# Altium integrated library Cypress PLD Simple.IntLib: 183 symbols (part 1 of 5)
Pins are listed as number, name and electrical type; pins without a type are passive.

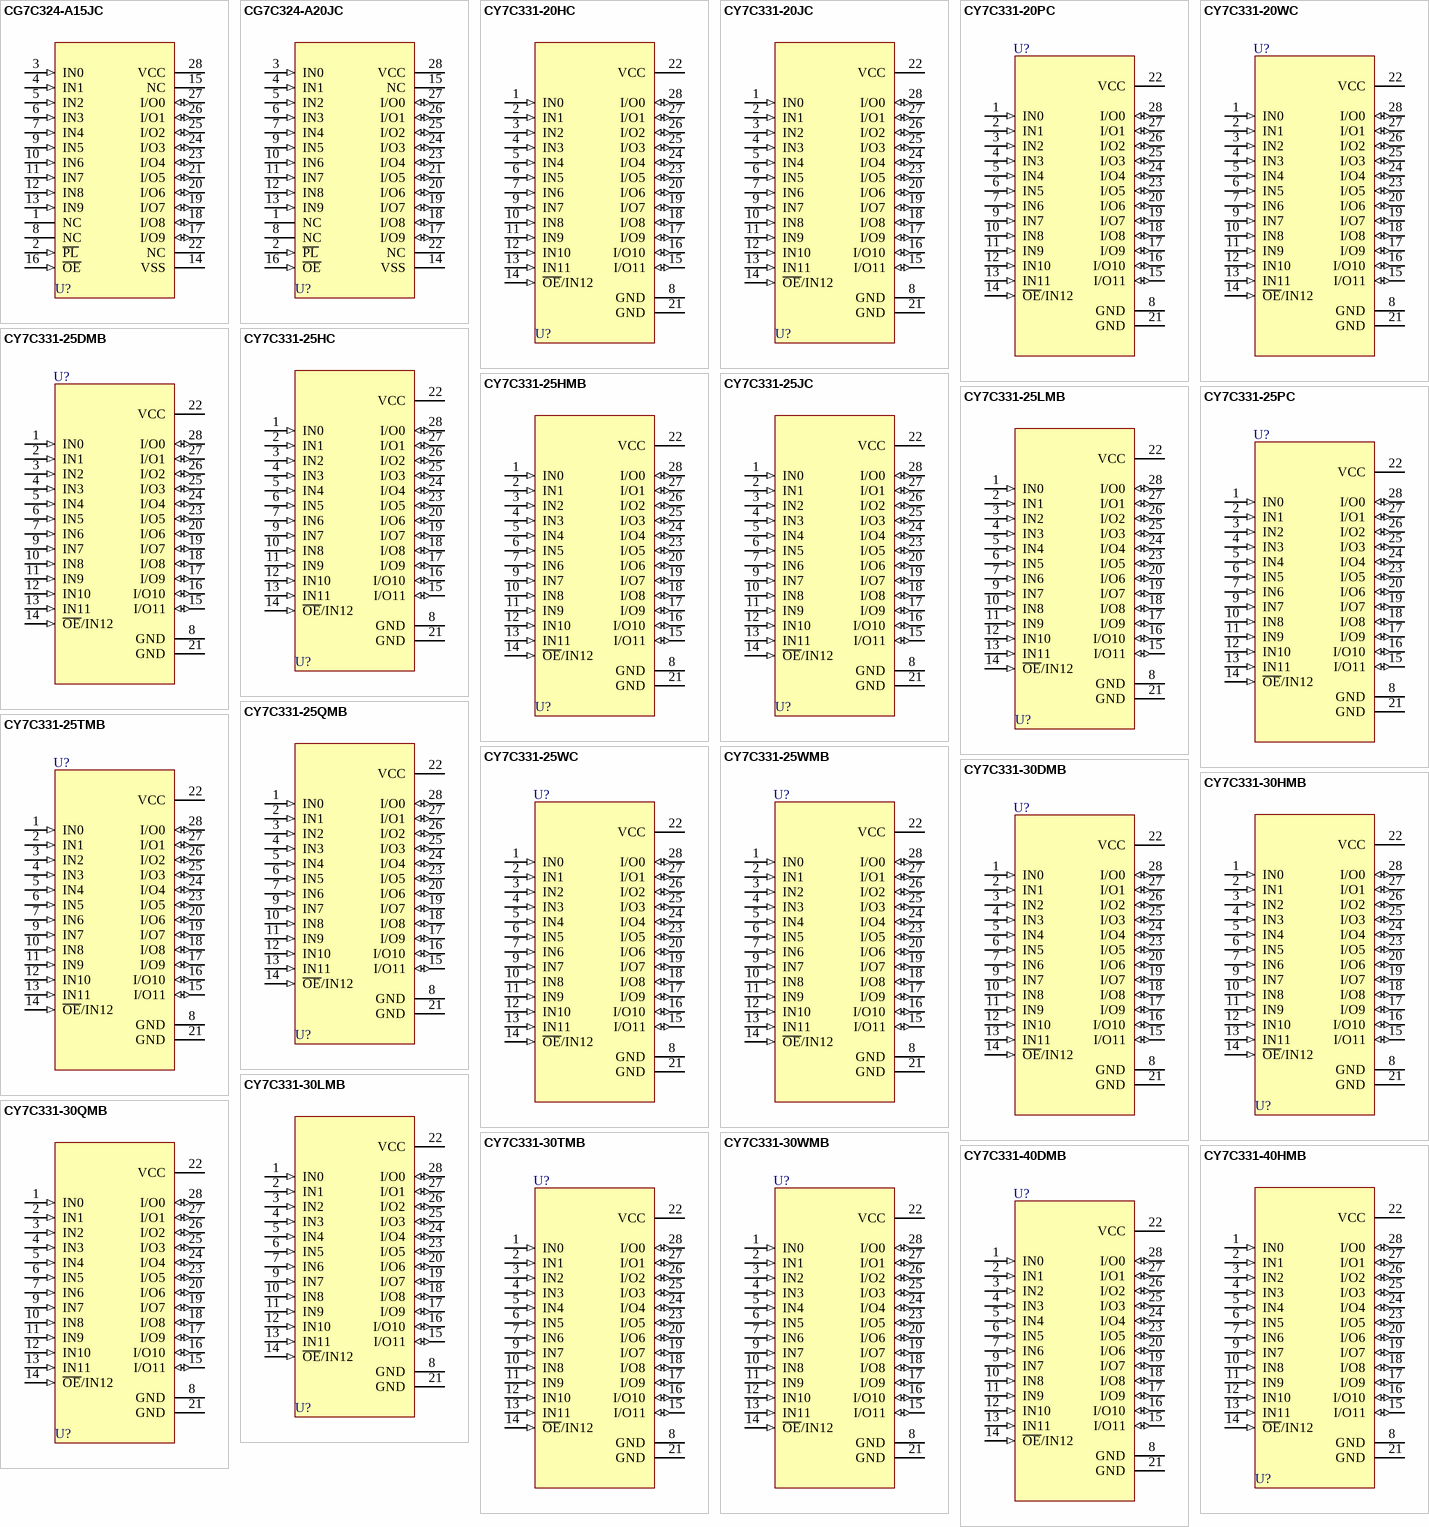
[diagram p0: symbols CG7C324-A15JC to CY7C331-40HMB]

## CG7C324-A15JC
designator U?
Reprogrammable Asynchronous CMOS Logic Device; Published: 11-Dec-2002; LatestRevisionDate: 13-Apr-2006; LatestRevisionNote: IPC-7351 Footprint Added.; DatasheetVersion: 26-Mar-1997; PackageVersion: Jul-2000; PackageReference: J64; Publisher: Altium Limited; PackageDescription: 28-Pin Plastic Leaded Chip Carrier 1.27 mm Pitch; Code_IPC: PLCC-28; ComponentLink1Description: Manufacturer Link; ComponentLink1URL: http://www.cypress.com/
footprint J64_N (Leaded Chip Carrier, 28-Leads, Body 11.5x11.5mm, Pitch 1.27mm, IPC Medium Density)
footprint J64_L (Leaded Chip Carrier, 28-Leads, Body 11.5x11.5mm, Pitch 1.27mm, IPC High Density)
footprint J64_M (Leaded Chip Carrier, 28-Leads, Body 11.5x11.5mm, Pitch 1.27mm, IPC Low Density)
3D model CG7C324-J64 (28-Pin Plastic Leaded Chip Carrier 1.27 mm Pitch)
pins: 1 NC, 2 ~{PL} (in), 3 IN0 (in), 4 IN1 (in), 5 IN2 (in), 6 IN3 (in), 7 IN4 (in), 8 NC, 9 IN5 (in), 10 IN6 (in), 11 IN7 (in), 12 IN8 (in), 13 IN9 (in), 14 VSS (power), 15 NC, 16 ~{OE} (in), 17 I/O9 (io), 18 I/O8 (io), 19 I/O7 (io), 20 I/O6 (io), 21 I/O5 (io), 22 NC, 23 I/O4 (io), 24 I/O3 (io), 25 I/O2 (io), 26 I/O1 (io), 27 I/O0 (io), 28 VCC (power)

## CG7C324-A20JC
designator U?
Reprogrammable Asynchronous CMOS Logic Device; Published: 11-Dec-2002; LatestRevisionDate: 13-Apr-2006; LatestRevisionNote: IPC-7351 Footprint Added.; DatasheetVersion: 26-Mar-1997; PackageVersion: Jul-2000; PackageReference: J64; Publisher: Altium Limited; PackageDescription: 28-Pin Plastic Leaded Chip Carrier 1.27 mm Pitch; Code_IPC: PLCC-28; ComponentLink1Description: Manufacturer Link; ComponentLink1URL: http://www.cypress.com/
footprint J64_N (Leaded Chip Carrier, 28-Leads, Body 11.5x11.5mm, Pitch 1.27mm, IPC Medium Density)
footprint J64_L (Leaded Chip Carrier, 28-Leads, Body 11.5x11.5mm, Pitch 1.27mm, IPC High Density)
footprint J64_M (Leaded Chip Carrier, 28-Leads, Body 11.5x11.5mm, Pitch 1.27mm, IPC Low Density)
3D model CG7C324-J64 (28-Pin Plastic Leaded Chip Carrier 1.27 mm Pitch)
pins: 1 NC, 2 ~{PL} (in), 3 IN0 (in), 4 IN1 (in), 5 IN2 (in), 6 IN3 (in), 7 IN4 (in), 8 NC, 9 IN5 (in), 10 IN6 (in), 11 IN7 (in), 12 IN8 (in), 13 IN9 (in), 14 VSS (power), 15 NC, 16 ~{OE} (in), 17 I/O9 (io), 18 I/O8 (io), 19 I/O7 (io), 20 I/O6 (io), 21 I/O5 (io), 22 NC, 23 I/O4 (io), 24 I/O3 (io), 25 I/O2 (io), 26 I/O1 (io), 27 I/O0 (io), 28 VCC (power)

## CY7C331-20HC
designator U?
Asynchronous Registered EPLD; Published: 11-Dec-2002; LatestRevisionDate: 13-Apr-2006; LatestRevisionNote: IPC-7351 Footprint Added.; DatasheetVersion: Dec-1992; PackageVersion: Jul-2000; PackageReference: H64; Publisher: Altium Limited; PackageDescription: 28-Pin Window Leaded Chip Carrier 1.27 mm Pitch; ComponentLink1Description: Manufacturer Link; ComponentLink1URL: http://www.cypress.com/
footprint H64_N (Leaded Chip Carrier, 28-Leads, Body 11.4x11.4mm, Pitch 1.27mm, IPC Medium Density)
footprint H64_L (Leaded Chip Carrier, 28-Leads, Body 11.4x11.4mm, Pitch 1.27mm, IPC High Density)
footprint H64_M (Leaded Chip Carrier, 28-Leads, Body 11.4x11.4mm, Pitch 1.27mm, IPC Low Density)
3D model CY7C331-H64 (28-Pin Window Leaded Chip Carrier 1.27 mm Pitch)
pins: 1 IN0 (in), 2 IN1 (in), 3 IN2 (in), 4 IN3 (in), 5 IN4 (in), 6 IN5 (in), 7 IN6 (in), 8 GND (power), 9 IN7 (in), 10 IN8 (in), 11 IN9 (in), 12 IN10 (in), 13 IN11 (in), 14 ~{OE}/IN12 (in), 15 I/O11 (io), 16 I/O10 (io), 17 I/O9 (io), 18 I/O8 (io), 19 I/O7 (io), 20 I/O6 (io), 21 GND (power), 22 VCC (power), 23 I/O5 (io), 24 I/O4 (io), 25 I/O3 (io), 26 I/O2 (io), 27 I/O1 (io), 28 I/O0 (io)

## CY7C331-20JC
designator U?
Asynchronous Registered EPLD; Published: 11-Dec-2002; LatestRevisionDate: 13-Apr-2006; LatestRevisionNote: IPC-7351 Footprint Added.; DatasheetVersion: Dec-1992; PackageVersion: Jul-2000; PackageReference: J64; Publisher: Altium Limited; PackageDescription: 28-Pin Plastic Leaded Chip Carrier 1.27 mm Pitch; Code_IPC: PLCC-28; ComponentLink1Description: Manufacturer Link; ComponentLink1URL: http://www.cypress.com/
footprint J64_N (Leaded Chip Carrier, 28-Leads, Body 11.5x11.5mm, Pitch 1.27mm, IPC Medium Density)
footprint J64_L (Leaded Chip Carrier, 28-Leads, Body 11.5x11.5mm, Pitch 1.27mm, IPC High Density)
footprint J64_M (Leaded Chip Carrier, 28-Leads, Body 11.5x11.5mm, Pitch 1.27mm, IPC Low Density)
3D model CY7C331-J64 (28-Pin Plastic Leaded Chip Carrier 1.27 mm Pitch)
pins: 1 IN0 (in), 2 IN1 (in), 3 IN2 (in), 4 IN3 (in), 5 IN4 (in), 6 IN5 (in), 7 IN6 (in), 8 GND (power), 9 IN7 (in), 10 IN8 (in), 11 IN9 (in), 12 IN10 (in), 13 IN11 (in), 14 ~{OE}/IN12 (in), 15 I/O11 (io), 16 I/O10 (io), 17 I/O9 (io), 18 I/O8 (io), 19 I/O7 (io), 20 I/O6 (io), 21 GND (power), 22 VCC (power), 23 I/O5 (io), 24 I/O4 (io), 25 I/O3 (io), 26 I/O2 (io), 27 I/O1 (io), 28 I/O0 (io)

## CY7C331-20PC
designator U?
Asynchronous Registered EPLD; Published: 11-Dec-2002; LatestRevisionDate: 04-Mar-2005; LatestRevisionNote: Stylized 3D Model Added.; DatasheetVersion: Dec-1992; PackageVersion: Jul-2000; PackageReference: P21; Publisher: Altium Limited; PackageDescription: DIP, Molded; 28 Leads; Row Spacing 7.62 mm; Pitch 2.54 mm; ComponentLink1Description: Manufacturer Link; ComponentLink1URL: http://www.cypress.com/
footprint P21 (DIP, Molded; 28 Leads; Row Spacing 7.62 mm; Pitch 2.54 mm)
3D model P21 (DIP, Molded; 28 Leads; Row Spacing 7.62 mm; Pitch 2.54 mm)
pins: 1 IN0 (in), 2 IN1 (in), 3 IN2 (in), 4 IN3 (in), 5 IN4 (in), 6 IN5 (in), 7 IN6 (in), 8 GND (power), 9 IN7 (in), 10 IN8 (in), 11 IN9 (in), 12 IN10 (in), 13 IN11 (in), 14 ~{OE}/IN12 (in), 15 I/O11 (io), 16 I/O10 (io), 17 I/O9 (io), 18 I/O8 (io), 19 I/O7 (io), 20 I/O6 (io), 21 GND (power), 22 VCC (power), 23 I/O5 (io), 24 I/O4 (io), 25 I/O3 (io), 26 I/O2 (io), 27 I/O1 (io), 28 I/O0 (io)

## CY7C331-20WC
designator U?
Asynchronous Registered EPLD; Published: 11-Dec-2002; LatestRevisionDate: 04-Mar-2005; LatestRevisionNote: Stylized 3D Model Added.; DatasheetVersion: Dec-1992; PackageVersion: Jul-2000; PackageReference: W22; Publisher: Altium Limited; PackageDescription: CerDIP, Window; 28 Leads; Row Spacing 7.62 mm; Pitch 2.54 mm; ComponentLink1Description: Manufacturer Link; ComponentLink1URL: http://www.cypress.com/
footprint W22 (CerDIP, Window; 28 Leads; Row Spacing 7.62 mm; Pitch 2.54 mm)
3D model W22 (CerDIP, Window; 28 Leads; Row Spacing 7.62 mm; Pitch 2.54 mm)
pins: 1 IN0 (in), 2 IN1 (in), 3 IN2 (in), 4 IN3 (in), 5 IN4 (in), 6 IN5 (in), 7 IN6 (in), 8 GND (power), 9 IN7 (in), 10 IN8 (in), 11 IN9 (in), 12 IN10 (in), 13 IN11 (in), 14 ~{OE}/IN12 (in), 15 I/O11 (io), 16 I/O10 (io), 17 I/O9 (io), 18 I/O8 (io), 19 I/O7 (io), 20 I/O6 (io), 21 GND (power), 22 VCC (power), 23 I/O5 (io), 24 I/O4 (io), 25 I/O3 (io), 26 I/O2 (io), 27 I/O1 (io), 28 I/O0 (io)

## CY7C331-25DMB
designator U?
Asynchronous Registered EPLD; Published: 11-Dec-2002; LatestRevisionDate: 04-Mar-2005; LatestRevisionNote: Stylized 3D Model Added.; DatasheetVersion: Dec-1992; PackageVersion: Mar-1997; PackageReference: D22; Publisher: Altium Limited; PackageDescription: CerDIP; 28 Leads; Row Spacing 7.62 mm; Pitch 2.54 mm; ComponentLink1Description: Manufacturer Link; ComponentLink1URL: http://www.cypress.com/
footprint D22 (CerDIP; 28 Leads; Row Spacing 7.62 mm; Pitch 2.54 mm)
3D model W22 (CerDIP; 28 Leads; Row Spacing 7.62 mm; Pitch 2.54 mm)
pins: 1 IN0 (in), 2 IN1 (in), 3 IN2 (in), 4 IN3 (in), 5 IN4 (in), 6 IN5 (in), 7 IN6 (in), 8 GND (power), 9 IN7 (in), 10 IN8 (in), 11 IN9 (in), 12 IN10 (in), 13 IN11 (in), 14 ~{OE}/IN12 (in), 15 I/O11 (io), 16 I/O10 (io), 17 I/O9 (io), 18 I/O8 (io), 19 I/O7 (io), 20 I/O6 (io), 21 GND (power), 22 VCC (power), 23 I/O5 (io), 24 I/O4 (io), 25 I/O3 (io), 26 I/O2 (io), 27 I/O1 (io), 28 I/O0 (io)

## CY7C331-25HC
designator U?
Asynchronous Registered EPLD; Published: 11-Dec-2002; LatestRevisionDate: 13-Apr-2006; LatestRevisionNote: IPC-7351 Footprint Added.; DatasheetVersion: Dec-1992; PackageVersion: Jul-2000; PackageReference: H64; Publisher: Altium Limited; PackageDescription: 28-Pin Window Leaded Chip Carrier 1.27 mm Pitch; ComponentLink1Description: Manufacturer Link; ComponentLink1URL: http://www.cypress.com/
footprint H64_N (Leaded Chip Carrier, 28-Leads, Body 11.4x11.4mm, Pitch 1.27mm, IPC Medium Density)
footprint H64_L (Leaded Chip Carrier, 28-Leads, Body 11.4x11.4mm, Pitch 1.27mm, IPC High Density)
footprint H64_M (Leaded Chip Carrier, 28-Leads, Body 11.4x11.4mm, Pitch 1.27mm, IPC Low Density)
3D model CY7C331-H64 (28-Pin Window Leaded Chip Carrier 1.27 mm Pitch)
pins: 1 IN0 (in), 2 IN1 (in), 3 IN2 (in), 4 IN3 (in), 5 IN4 (in), 6 IN5 (in), 7 IN6 (in), 8 GND (power), 9 IN7 (in), 10 IN8 (in), 11 IN9 (in), 12 IN10 (in), 13 IN11 (in), 14 ~{OE}/IN12 (in), 15 I/O11 (io), 16 I/O10 (io), 17 I/O9 (io), 18 I/O8 (io), 19 I/O7 (io), 20 I/O6 (io), 21 GND (power), 22 VCC (power), 23 I/O5 (io), 24 I/O4 (io), 25 I/O3 (io), 26 I/O2 (io), 27 I/O1 (io), 28 I/O0 (io)

## CY7C331-25HMB
designator U?
Asynchronous Registered EPLD; Published: 11-Dec-2002; LatestRevisionDate: 13-Apr-2006; LatestRevisionNote: IPC-7351 Footprint Added.; DatasheetVersion: Dec-1992; PackageVersion: Jul-2000; PackageReference: H64; Publisher: Altium Limited; PackageDescription: 28-Pin Window Leaded Chip Carrier 1.27 mm Pitch; ComponentLink1Description: Manufacturer Link; ComponentLink1URL: http://www.cypress.com/
footprint H64_N (Leaded Chip Carrier, 28-Leads, Body 11.4x11.4mm, Pitch 1.27mm, IPC Medium Density)
footprint H64_L (Leaded Chip Carrier, 28-Leads, Body 11.4x11.4mm, Pitch 1.27mm, IPC High Density)
footprint H64_M (Leaded Chip Carrier, 28-Leads, Body 11.4x11.4mm, Pitch 1.27mm, IPC Low Density)
3D model CY7C331-H64 (28-Pin Window Leaded Chip Carrier 1.27 mm Pitch)
pins: 1 IN0 (in), 2 IN1 (in), 3 IN2 (in), 4 IN3 (in), 5 IN4 (in), 6 IN5 (in), 7 IN6 (in), 8 GND (power), 9 IN7 (in), 10 IN8 (in), 11 IN9 (in), 12 IN10 (in), 13 IN11 (in), 14 ~{OE}/IN12 (in), 15 I/O11 (io), 16 I/O10 (io), 17 I/O9 (io), 18 I/O8 (io), 19 I/O7 (io), 20 I/O6 (io), 21 GND (power), 22 VCC (power), 23 I/O5 (io), 24 I/O4 (io), 25 I/O3 (io), 26 I/O2 (io), 27 I/O1 (io), 28 I/O0 (io)

## CY7C331-25JC
designator U?
Asynchronous Registered EPLD; Published: 11-Dec-2002; LatestRevisionDate: 13-Apr-2006; LatestRevisionNote: IPC-7351 Footprint Added.; DatasheetVersion: Dec-1992; PackageVersion: Jul-2000; PackageReference: J64; Publisher: Altium Limited; PackageDescription: 28-Pin Plastic Leaded Chip Carrier 1.27 mm Pitch; Code_IPC: PLCC-28; ComponentLink1Description: Manufacturer Link; ComponentLink1URL: http://www.cypress.com/
footprint J64_N (Leaded Chip Carrier, 28-Leads, Body 11.5x11.5mm, Pitch 1.27mm, IPC Medium Density)
footprint J64_L (Leaded Chip Carrier, 28-Leads, Body 11.5x11.5mm, Pitch 1.27mm, IPC High Density)
footprint J64_M (Leaded Chip Carrier, 28-Leads, Body 11.5x11.5mm, Pitch 1.27mm, IPC Low Density)
3D model CY7C331-J64 (28-Pin Plastic Leaded Chip Carrier 1.27 mm Pitch)
pins: 1 IN0 (in), 2 IN1 (in), 3 IN2 (in), 4 IN3 (in), 5 IN4 (in), 6 IN5 (in), 7 IN6 (in), 8 GND (power), 9 IN7 (in), 10 IN8 (in), 11 IN9 (in), 12 IN10 (in), 13 IN11 (in), 14 ~{OE}/IN12 (in), 15 I/O11 (io), 16 I/O10 (io), 17 I/O9 (io), 18 I/O8 (io), 19 I/O7 (io), 20 I/O6 (io), 21 GND (power), 22 VCC (power), 23 I/O5 (io), 24 I/O4 (io), 25 I/O3 (io), 26 I/O2 (io), 27 I/O1 (io), 28 I/O0 (io)

## CY7C331-25LMB
designator U?
Asynchronous Registered EPLD; Published: 11-Dec-2002; DatasheetVersion: Dec-1992; PackageVersion: Apr-2001; PackageReference: L64; Publisher: Altium Limited; PackageDescription: Leadless Chip Carrier; 28 Terminals; Body 11.4 x 11.4 mm; ComponentLink1Description: Manufacturer Link; ComponentLink1URL: http://www.cypress.com/
footprint L64 (Leadless Chip Carrier; 28 Terminals; Body 11.4 x 11.4 mm)
pins: 1 IN0 (in), 2 IN1 (in), 3 IN2 (in), 4 IN3 (in), 5 IN4 (in), 6 IN5 (in), 7 IN6 (in), 8 GND (power), 9 IN7 (in), 10 IN8 (in), 11 IN9 (in), 12 IN10 (in), 13 IN11 (in), 14 ~{OE}/IN12 (in), 15 I/O11 (io), 16 I/O10 (io), 17 I/O9 (io), 18 I/O8 (io), 19 I/O7 (io), 20 I/O6 (io), 21 GND (power), 22 VCC (power), 23 I/O5 (io), 24 I/O4 (io), 25 I/O3 (io), 26 I/O2 (io), 27 I/O1 (io), 28 I/O0 (io)

## CY7C331-25PC
designator U?
Asynchronous Registered EPLD; Published: 11-Dec-2002; LatestRevisionDate: 04-Mar-2005; LatestRevisionNote: Stylized 3D Model Added.; DatasheetVersion: Dec-1992; PackageVersion: Jul-2000; PackageReference: P21; Publisher: Altium Limited; PackageDescription: DIP, Molded; 28 Leads; Row Spacing 7.62 mm; Pitch 2.54 mm; ComponentLink1Description: Manufacturer Link; ComponentLink1URL: http://www.cypress.com/
footprint P21 (DIP, Molded; 28 Leads; Row Spacing 7.62 mm; Pitch 2.54 mm)
3D model P21 (DIP, Molded; 28 Leads; Row Spacing 7.62 mm; Pitch 2.54 mm)
pins: 1 IN0 (in), 2 IN1 (in), 3 IN2 (in), 4 IN3 (in), 5 IN4 (in), 6 IN5 (in), 7 IN6 (in), 8 GND (power), 9 IN7 (in), 10 IN8 (in), 11 IN9 (in), 12 IN10 (in), 13 IN11 (in), 14 ~{OE}/IN12 (in), 15 I/O11 (io), 16 I/O10 (io), 17 I/O9 (io), 18 I/O8 (io), 19 I/O7 (io), 20 I/O6 (io), 21 GND (power), 22 VCC (power), 23 I/O5 (io), 24 I/O4 (io), 25 I/O3 (io), 26 I/O2 (io), 27 I/O1 (io), 28 I/O0 (io)

## CY7C331-25QMB
designator U?
Asynchronous Registered EPLD; Published: 11-Dec-2002; DatasheetVersion: Dec-1992; PackageVersion: Apr-2001; PackageReference: Q64; Publisher: Altium Limited; PackageDescription: Leadless Chip Carrier, Window; 28 Terminals; Body 11.4 x 11.4 mm; ComponentLink1Description: Manufacturer Link; ComponentLink1URL: http://www.cypress.com/
footprint Q64 (Leadless Chip Carrier, Window; 28 Terminals; Body 11.4 x 11.4 mm)
pins: 1 IN0 (in), 2 IN1 (in), 3 IN2 (in), 4 IN3 (in), 5 IN4 (in), 6 IN5 (in), 7 IN6 (in), 8 GND (power), 9 IN7 (in), 10 IN8 (in), 11 IN9 (in), 12 IN10 (in), 13 IN11 (in), 14 ~{OE}/IN12 (in), 15 I/O11 (io), 16 I/O10 (io), 17 I/O9 (io), 18 I/O8 (io), 19 I/O7 (io), 20 I/O6 (io), 21 GND (power), 22 VCC (power), 23 I/O5 (io), 24 I/O4 (io), 25 I/O3 (io), 26 I/O2 (io), 27 I/O1 (io), 28 I/O0 (io)

## CY7C331-25TMB
designator U?
Asynchronous Registered EPLD; Published: 11-Dec-2002; LatestRevisionDate: 04-Mar-2005; LatestRevisionNote: Stylized 3D Model Added.; DatasheetVersion: Dec-1992; PackageVersion: Dec-1992; PackageReference: T74; Publisher: Altium Limited; PackageDescription: DFP, Window; 28 Leads; Body 18.8 x 9.7 mm (LxW max); Pitch 1.27 mm; ComponentLink1Description: Manufacturer Link; ComponentLink1URL: http://www.cypress.com/
footprint T74 (DFP, Window; 28 Leads; Body 18.8 x 9.7 mm (LxW max); Pitch 1.27 mm)
3D model T74 (DFP, Window; 28 Leads; Body 18.8 x 9.7 mm (LxW max); Pitch 1.27 mm)
pins: 1 IN0 (in), 2 IN1 (in), 3 IN2 (in), 4 IN3 (in), 5 IN4 (in), 6 IN5 (in), 7 IN6 (in), 8 GND (power), 9 IN7 (in), 10 IN8 (in), 11 IN9 (in), 12 IN10 (in), 13 IN11 (in), 14 ~{OE}/IN12 (in), 15 I/O11 (io), 16 I/O10 (io), 17 I/O9 (io), 18 I/O8 (io), 19 I/O7 (io), 20 I/O6 (io), 21 GND (power), 22 VCC (power), 23 I/O5 (io), 24 I/O4 (io), 25 I/O3 (io), 26 I/O2 (io), 27 I/O1 (io), 28 I/O0 (io)

## CY7C331-25WC
designator U?
Asynchronous Registered EPLD; Published: 11-Dec-2002; LatestRevisionDate: 04-Mar-2005; LatestRevisionNote: Stylized 3D Model Added.; DatasheetVersion: Dec-1992; PackageVersion: Jul-2000; PackageReference: W22; Publisher: Altium Limited; PackageDescription: CerDIP, Window; 28 Leads; Row Spacing 7.62 mm; Pitch 2.54 mm; ComponentLink1Description: Manufacturer Link; ComponentLink1URL: http://www.cypress.com/
footprint W22 (CerDIP, Window; 28 Leads; Row Spacing 7.62 mm; Pitch 2.54 mm)
3D model W22 (CerDIP, Window; 28 Leads; Row Spacing 7.62 mm; Pitch 2.54 mm)
pins: 1 IN0 (in), 2 IN1 (in), 3 IN2 (in), 4 IN3 (in), 5 IN4 (in), 6 IN5 (in), 7 IN6 (in), 8 GND (power), 9 IN7 (in), 10 IN8 (in), 11 IN9 (in), 12 IN10 (in), 13 IN11 (in), 14 ~{OE}/IN12 (in), 15 I/O11 (io), 16 I/O10 (io), 17 I/O9 (io), 18 I/O8 (io), 19 I/O7 (io), 20 I/O6 (io), 21 GND (power), 22 VCC (power), 23 I/O5 (io), 24 I/O4 (io), 25 I/O3 (io), 26 I/O2 (io), 27 I/O1 (io), 28 I/O0 (io)

## CY7C331-25WMB
designator U?
Asynchronous Registered EPLD; Published: 11-Dec-2002; LatestRevisionDate: 04-Mar-2005; LatestRevisionNote: Stylized 3D Model Added.; DatasheetVersion: Dec-1992; PackageVersion: Jul-2000; PackageReference: W22; Publisher: Altium Limited; PackageDescription: CerDIP, Window; 28 Leads; Row Spacing 7.62 mm; Pitch 2.54 mm; ComponentLink1Description: Manufacturer Link; ComponentLink1URL: http://www.cypress.com/
footprint W22 (CerDIP, Window; 28 Leads; Row Spacing 7.62 mm; Pitch 2.54 mm)
3D model W22 (CerDIP, Window; 28 Leads; Row Spacing 7.62 mm; Pitch 2.54 mm)
pins: 1 IN0 (in), 2 IN1 (in), 3 IN2 (in), 4 IN3 (in), 5 IN4 (in), 6 IN5 (in), 7 IN6 (in), 8 GND (power), 9 IN7 (in), 10 IN8 (in), 11 IN9 (in), 12 IN10 (in), 13 IN11 (in), 14 ~{OE}/IN12 (in), 15 I/O11 (io), 16 I/O10 (io), 17 I/O9 (io), 18 I/O8 (io), 19 I/O7 (io), 20 I/O6 (io), 21 GND (power), 22 VCC (power), 23 I/O5 (io), 24 I/O4 (io), 25 I/O3 (io), 26 I/O2 (io), 27 I/O1 (io), 28 I/O0 (io)

## CY7C331-30DMB
designator U?
Asynchronous Registered EPLD; Published: 11-Dec-2002; LatestRevisionDate: 04-Mar-2005; LatestRevisionNote: Stylized 3D Model Added.; DatasheetVersion: Dec-1992; PackageVersion: Mar-1997; PackageReference: D22; Publisher: Altium Limited; PackageDescription: CerDIP; 28 Leads; Row Spacing 7.62 mm; Pitch 2.54 mm; ComponentLink1Description: Manufacturer Link; ComponentLink1URL: http://www.cypress.com/
footprint D22 (CerDIP; 28 Leads; Row Spacing 7.62 mm; Pitch 2.54 mm)
3D model W22 (CerDIP; 28 Leads; Row Spacing 7.62 mm; Pitch 2.54 mm)
pins: 1 IN0 (in), 2 IN1 (in), 3 IN2 (in), 4 IN3 (in), 5 IN4 (in), 6 IN5 (in), 7 IN6 (in), 8 GND (power), 9 IN7 (in), 10 IN8 (in), 11 IN9 (in), 12 IN10 (in), 13 IN11 (in), 14 ~{OE}/IN12 (in), 15 I/O11 (io), 16 I/O10 (io), 17 I/O9 (io), 18 I/O8 (io), 19 I/O7 (io), 20 I/O6 (io), 21 GND (power), 22 VCC (power), 23 I/O5 (io), 24 I/O4 (io), 25 I/O3 (io), 26 I/O2 (io), 27 I/O1 (io), 28 I/O0 (io)

## CY7C331-30HMB
designator U?
Asynchronous Registered EPLD; Published: 11-Dec-2002; LatestRevisionDate: 13-Apr-2006; LatestRevisionNote: IPC-7351 Footprint Added.; DatasheetVersion: Dec-1992; PackageVersion: Jul-2000; PackageReference: H64; Publisher: Altium Limited; PackageDescription: 28-Pin Window Leaded Chip Carrier 1.27 mm Pitch; ComponentLink1Description: Manufacturer Link; ComponentLink1URL: http://www.cypress.com/
footprint H64_N (Leaded Chip Carrier, 28-Leads, Body 11.4x11.4mm, Pitch 1.27mm, IPC Medium Density)
footprint H64_L (Leaded Chip Carrier, 28-Leads, Body 11.4x11.4mm, Pitch 1.27mm, IPC High Density)
footprint H64_M (Leaded Chip Carrier, 28-Leads, Body 11.4x11.4mm, Pitch 1.27mm, IPC Low Density)
3D model CY7C331-H64 (28-Pin Window Leaded Chip Carrier 1.27 mm Pitch)
pins: 1 IN0 (in), 2 IN1 (in), 3 IN2 (in), 4 IN3 (in), 5 IN4 (in), 6 IN5 (in), 7 IN6 (in), 8 GND (power), 9 IN7 (in), 10 IN8 (in), 11 IN9 (in), 12 IN10 (in), 13 IN11 (in), 14 ~{OE}/IN12 (in), 15 I/O11 (io), 16 I/O10 (io), 17 I/O9 (io), 18 I/O8 (io), 19 I/O7 (io), 20 I/O6 (io), 21 GND (power), 22 VCC (power), 23 I/O5 (io), 24 I/O4 (io), 25 I/O3 (io), 26 I/O2 (io), 27 I/O1 (io), 28 I/O0 (io)

## CY7C331-30LMB
designator U?
Asynchronous Registered EPLD; Published: 11-Dec-2002; DatasheetVersion: Dec-1992; PackageVersion: Apr-2001; PackageReference: L64; Publisher: Altium Limited; PackageDescription: Leadless Chip Carrier; 28 Terminals; Body 11.4 x 11.4 mm; ComponentLink1Description: Manufacturer Link; ComponentLink1URL: http://www.cypress.com/
footprint L64 (Leadless Chip Carrier; 28 Terminals; Body 11.4 x 11.4 mm)
pins: 1 IN0 (in), 2 IN1 (in), 3 IN2 (in), 4 IN3 (in), 5 IN4 (in), 6 IN5 (in), 7 IN6 (in), 8 GND (power), 9 IN7 (in), 10 IN8 (in), 11 IN9 (in), 12 IN10 (in), 13 IN11 (in), 14 ~{OE}/IN12 (in), 15 I/O11 (io), 16 I/O10 (io), 17 I/O9 (io), 18 I/O8 (io), 19 I/O7 (io), 20 I/O6 (io), 21 GND (power), 22 VCC (power), 23 I/O5 (io), 24 I/O4 (io), 25 I/O3 (io), 26 I/O2 (io), 27 I/O1 (io), 28 I/O0 (io)

## CY7C331-30QMB
designator U?
Asynchronous Registered EPLD; Published: 11-Dec-2002; DatasheetVersion: Dec-1992; PackageVersion: Apr-2001; PackageReference: Q64; Publisher: Altium Limited; PackageDescription: Leadless Chip Carrier, Window; 28 Terminals; Body 11.4 x 11.4 mm; ComponentLink1Description: Manufacturer Link; ComponentLink1URL: http://www.cypress.com/
footprint Q64 (Leadless Chip Carrier, Window; 28 Terminals; Body 11.4 x 11.4 mm)
pins: 1 IN0 (in), 2 IN1 (in), 3 IN2 (in), 4 IN3 (in), 5 IN4 (in), 6 IN5 (in), 7 IN6 (in), 8 GND (power), 9 IN7 (in), 10 IN8 (in), 11 IN9 (in), 12 IN10 (in), 13 IN11 (in), 14 ~{OE}/IN12 (in), 15 I/O11 (io), 16 I/O10 (io), 17 I/O9 (io), 18 I/O8 (io), 19 I/O7 (io), 20 I/O6 (io), 21 GND (power), 22 VCC (power), 23 I/O5 (io), 24 I/O4 (io), 25 I/O3 (io), 26 I/O2 (io), 27 I/O1 (io), 28 I/O0 (io)

## CY7C331-30TMB
designator U?
Asynchronous Registered EPLD; Published: 11-Dec-2002; LatestRevisionDate: 04-Mar-2005; LatestRevisionNote: Stylized 3D Model Added.; DatasheetVersion: Dec-1992; PackageVersion: Dec-1992; PackageReference: T74; Publisher: Altium Limited; PackageDescription: DFP, Window; 28 Leads; Body 18.8 x 9.7 mm (LxW max); Pitch 1.27 mm; ComponentLink1Description: Manufacturer Link; ComponentLink1URL: http://www.cypress.com/
footprint T74 (DFP, Window; 28 Leads; Body 18.8 x 9.7 mm (LxW max); Pitch 1.27 mm)
3D model T74 (DFP, Window; 28 Leads; Body 18.8 x 9.7 mm (LxW max); Pitch 1.27 mm)
pins: 1 IN0 (in), 2 IN1 (in), 3 IN2 (in), 4 IN3 (in), 5 IN4 (in), 6 IN5 (in), 7 IN6 (in), 8 GND (power), 9 IN7 (in), 10 IN8 (in), 11 IN9 (in), 12 IN10 (in), 13 IN11 (in), 14 ~{OE}/IN12 (in), 15 I/O11 (io), 16 I/O10 (io), 17 I/O9 (io), 18 I/O8 (io), 19 I/O7 (io), 20 I/O6 (io), 21 GND (power), 22 VCC (power), 23 I/O5 (io), 24 I/O4 (io), 25 I/O3 (io), 26 I/O2 (io), 27 I/O1 (io), 28 I/O0 (io)

## CY7C331-30WMB
designator U?
Asynchronous Registered EPLD; Published: 11-Dec-2002; LatestRevisionDate: 04-Mar-2005; LatestRevisionNote: Stylized 3D Model Added.; DatasheetVersion: Dec-1992; PackageVersion: Jul-2000; PackageReference: W22; Publisher: Altium Limited; PackageDescription: CerDIP, Window; 28 Leads; Row Spacing 7.62 mm; Pitch 2.54 mm; ComponentLink1Description: Manufacturer Link; ComponentLink1URL: http://www.cypress.com/
footprint W22 (CerDIP, Window; 28 Leads; Row Spacing 7.62 mm; Pitch 2.54 mm)
3D model W22 (CerDIP, Window; 28 Leads; Row Spacing 7.62 mm; Pitch 2.54 mm)
pins: 1 IN0 (in), 2 IN1 (in), 3 IN2 (in), 4 IN3 (in), 5 IN4 (in), 6 IN5 (in), 7 IN6 (in), 8 GND (power), 9 IN7 (in), 10 IN8 (in), 11 IN9 (in), 12 IN10 (in), 13 IN11 (in), 14 ~{OE}/IN12 (in), 15 I/O11 (io), 16 I/O10 (io), 17 I/O9 (io), 18 I/O8 (io), 19 I/O7 (io), 20 I/O6 (io), 21 GND (power), 22 VCC (power), 23 I/O5 (io), 24 I/O4 (io), 25 I/O3 (io), 26 I/O2 (io), 27 I/O1 (io), 28 I/O0 (io)

## CY7C331-40DMB
designator U?
Asynchronous Registered EPLD; Published: 11-Dec-2002; LatestRevisionDate: 04-Mar-2005; LatestRevisionNote: Stylized 3D Model Added.; DatasheetVersion: Dec-1992; PackageVersion: Mar-1997; PackageReference: D22; Publisher: Altium Limited; PackageDescription: CerDIP; 28 Leads; Row Spacing 7.62 mm; Pitch 2.54 mm; ComponentLink1Description: Manufacturer Link; ComponentLink1URL: http://www.cypress.com/
footprint D22 (CerDIP; 28 Leads; Row Spacing 7.62 mm; Pitch 2.54 mm)
3D model W22 (CerDIP; 28 Leads; Row Spacing 7.62 mm; Pitch 2.54 mm)
pins: 1 IN0 (in), 2 IN1 (in), 3 IN2 (in), 4 IN3 (in), 5 IN4 (in), 6 IN5 (in), 7 IN6 (in), 8 GND (power), 9 IN7 (in), 10 IN8 (in), 11 IN9 (in), 12 IN10 (in), 13 IN11 (in), 14 ~{OE}/IN12 (in), 15 I/O11 (io), 16 I/O10 (io), 17 I/O9 (io), 18 I/O8 (io), 19 I/O7 (io), 20 I/O6 (io), 21 GND (power), 22 VCC (power), 23 I/O5 (io), 24 I/O4 (io), 25 I/O3 (io), 26 I/O2 (io), 27 I/O1 (io), 28 I/O0 (io)

## CY7C331-40HMB
designator U?
Asynchronous Registered EPLD; Published: 11-Dec-2002; LatestRevisionDate: 13-Apr-2006; LatestRevisionNote: IPC-7351 Footprint Added.; DatasheetVersion: Dec-1992; PackageVersion: Jul-2000; PackageReference: H64; Publisher: Altium Limited; PackageDescription: 28-Pin Window Leaded Chip Carrier 1.27 mm Pitch; ComponentLink1Description: Manufacturer Link; ComponentLink1URL: http://www.cypress.com/
footprint H64_N (Leaded Chip Carrier, 28-Leads, Body 11.4x11.4mm, Pitch 1.27mm, IPC Medium Density)
footprint H64_L (Leaded Chip Carrier, 28-Leads, Body 11.4x11.4mm, Pitch 1.27mm, IPC High Density)
footprint H64_M (Leaded Chip Carrier, 28-Leads, Body 11.4x11.4mm, Pitch 1.27mm, IPC Low Density)
3D model CY7C331-H64 (28-Pin Window Leaded Chip Carrier 1.27 mm Pitch)
pins: 1 IN0 (in), 2 IN1 (in), 3 IN2 (in), 4 IN3 (in), 5 IN4 (in), 6 IN5 (in), 7 IN6 (in), 8 GND (power), 9 IN7 (in), 10 IN8 (in), 11 IN9 (in), 12 IN10 (in), 13 IN11 (in), 14 ~{OE}/IN12 (in), 15 I/O11 (io), 16 I/O10 (io), 17 I/O9 (io), 18 I/O8 (io), 19 I/O7 (io), 20 I/O6 (io), 21 GND (power), 22 VCC (power), 23 I/O5 (io), 24 I/O4 (io), 25 I/O3 (io), 26 I/O2 (io), 27 I/O1 (io), 28 I/O0 (io)

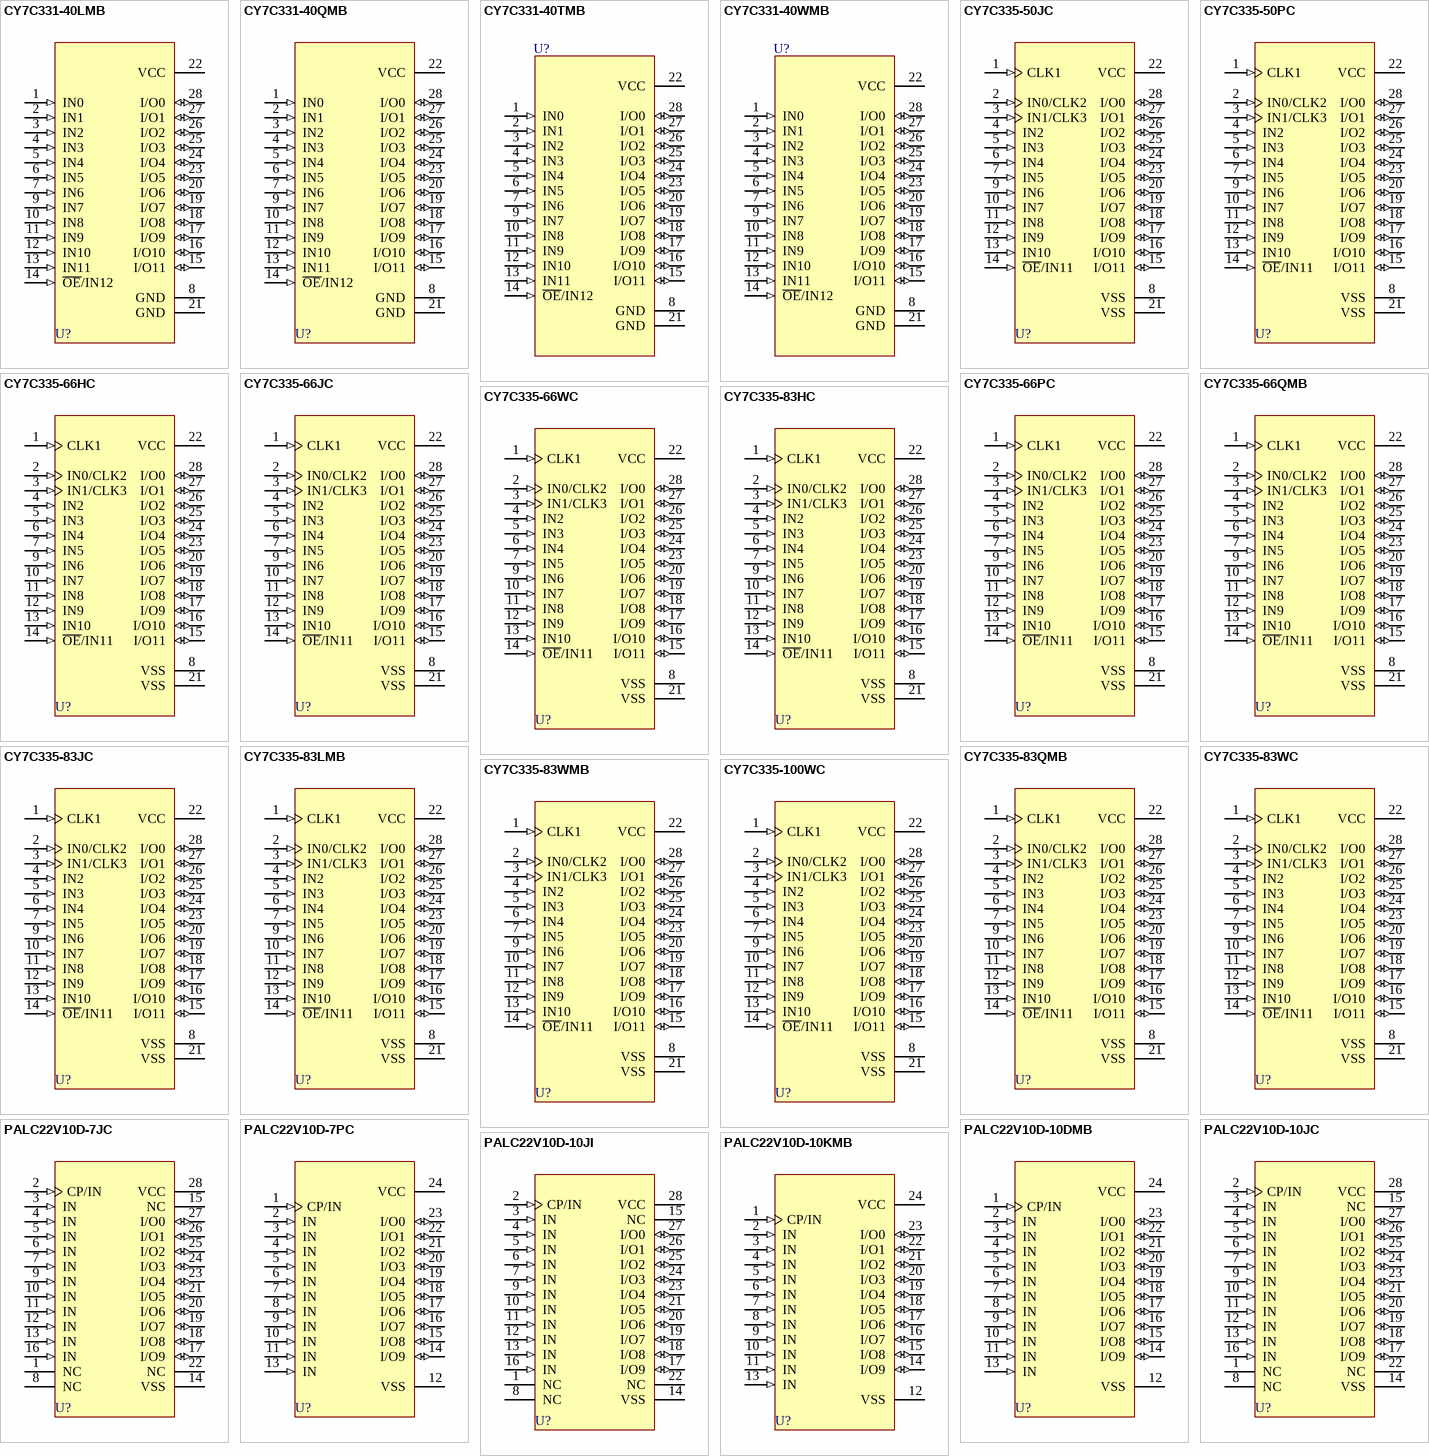
[diagram p1: symbols CY7C331-40LMB to PALC22V10D-10KMB]

## CY7C331-40LMB
designator U?
Asynchronous Registered EPLD; Published: 11-Dec-2002; DatasheetVersion: Dec-1992; PackageVersion: Apr-2001; PackageReference: L64; Publisher: Altium Limited; PackageDescription: Leadless Chip Carrier; 28 Terminals; Body 11.4 x 11.4 mm; ComponentLink1Description: Manufacturer Link; ComponentLink1URL: http://www.cypress.com/
footprint L64 (Leadless Chip Carrier; 28 Terminals; Body 11.4 x 11.4 mm)
pins: 1 IN0 (in), 2 IN1 (in), 3 IN2 (in), 4 IN3 (in), 5 IN4 (in), 6 IN5 (in), 7 IN6 (in), 8 GND (power), 9 IN7 (in), 10 IN8 (in), 11 IN9 (in), 12 IN10 (in), 13 IN11 (in), 14 ~{OE}/IN12 (in), 15 I/O11 (io), 16 I/O10 (io), 17 I/O9 (io), 18 I/O8 (io), 19 I/O7 (io), 20 I/O6 (io), 21 GND (power), 22 VCC (power), 23 I/O5 (io), 24 I/O4 (io), 25 I/O3 (io), 26 I/O2 (io), 27 I/O1 (io), 28 I/O0 (io)

## CY7C331-40QMB
designator U?
Asynchronous Registered EPLD; Published: 11-Dec-2002; DatasheetVersion: Dec-1992; PackageVersion: Apr-2001; PackageReference: Q64; Publisher: Altium Limited; PackageDescription: Leadless Chip Carrier, Window; 28 Terminals; Body 11.4 x 11.4 mm; ComponentLink1Description: Manufacturer Link; ComponentLink1URL: http://www.cypress.com/
footprint Q64 (Leadless Chip Carrier, Window; 28 Terminals; Body 11.4 x 11.4 mm)
pins: 1 IN0 (in), 2 IN1 (in), 3 IN2 (in), 4 IN3 (in), 5 IN4 (in), 6 IN5 (in), 7 IN6 (in), 8 GND (power), 9 IN7 (in), 10 IN8 (in), 11 IN9 (in), 12 IN10 (in), 13 IN11 (in), 14 ~{OE}/IN12 (in), 15 I/O11 (io), 16 I/O10 (io), 17 I/O9 (io), 18 I/O8 (io), 19 I/O7 (io), 20 I/O6 (io), 21 GND (power), 22 VCC (power), 23 I/O5 (io), 24 I/O4 (io), 25 I/O3 (io), 26 I/O2 (io), 27 I/O1 (io), 28 I/O0 (io)

## CY7C331-40TMB
designator U?
Asynchronous Registered EPLD; Published: 11-Dec-2002; LatestRevisionDate: 04-Mar-2005; LatestRevisionNote: Stylized 3D Model Added.; DatasheetVersion: Dec-1992; PackageVersion: Dec-1992; PackageReference: T74; Publisher: Altium Limited; PackageDescription: DFP, Window; 28 Leads; Body 18.8 x 9.7 mm (LxW max); Pitch 1.27 mm; ComponentLink1Description: Manufacturer Link; ComponentLink1URL: http://www.cypress.com/
footprint T74 (DFP, Window; 28 Leads; Body 18.8 x 9.7 mm (LxW max); Pitch 1.27 mm)
3D model T74 (DFP, Window; 28 Leads; Body 18.8 x 9.7 mm (LxW max); Pitch 1.27 mm)
pins: 1 IN0 (in), 2 IN1 (in), 3 IN2 (in), 4 IN3 (in), 5 IN4 (in), 6 IN5 (in), 7 IN6 (in), 8 GND (power), 9 IN7 (in), 10 IN8 (in), 11 IN9 (in), 12 IN10 (in), 13 IN11 (in), 14 ~{OE}/IN12 (in), 15 I/O11 (io), 16 I/O10 (io), 17 I/O9 (io), 18 I/O8 (io), 19 I/O7 (io), 20 I/O6 (io), 21 GND (power), 22 VCC (power), 23 I/O5 (io), 24 I/O4 (io), 25 I/O3 (io), 26 I/O2 (io), 27 I/O1 (io), 28 I/O0 (io)

## CY7C331-40WMB
designator U?
Asynchronous Registered EPLD; Published: 11-Dec-2002; LatestRevisionDate: 04-Mar-2005; LatestRevisionNote: Stylized 3D Model Added.; DatasheetVersion: Dec-1992; PackageVersion: Jul-2000; PackageReference: W22; Publisher: Altium Limited; PackageDescription: CerDIP, Window; 28 Leads; Row Spacing 7.62 mm; Pitch 2.54 mm; ComponentLink1Description: Manufacturer Link; ComponentLink1URL: http://www.cypress.com/
footprint W22 (CerDIP, Window; 28 Leads; Row Spacing 7.62 mm; Pitch 2.54 mm)
3D model W22 (CerDIP, Window; 28 Leads; Row Spacing 7.62 mm; Pitch 2.54 mm)
pins: 1 IN0 (in), 2 IN1 (in), 3 IN2 (in), 4 IN3 (in), 5 IN4 (in), 6 IN5 (in), 7 IN6 (in), 8 GND (power), 9 IN7 (in), 10 IN8 (in), 11 IN9 (in), 12 IN10 (in), 13 IN11 (in), 14 ~{OE}/IN12 (in), 15 I/O11 (io), 16 I/O10 (io), 17 I/O9 (io), 18 I/O8 (io), 19 I/O7 (io), 20 I/O6 (io), 21 GND (power), 22 VCC (power), 23 I/O5 (io), 24 I/O4 (io), 25 I/O3 (io), 26 I/O2 (io), 27 I/O1 (io), 28 I/O0 (io)

## CY7C335-50JC
designator U?
Universal Synchronous EPLD; Published: 11-Dec-2002; LatestRevisionDate: 13-Apr-2006; LatestRevisionNote: IPC-7351 Footprint Added.; DatasheetVersion: 26-Mar-1997; PackageVersion: Jul-2000; PackageReference: J64; Publisher: Altium Limited; PackageDescription: 28-Pin Plastic Leaded Chip Carrier 1.27 mm Pitch; Code_IPC: PLCC-28; ComponentLink1Description: Manufacturer Link; ComponentLink1URL: http://www.cypress.com/
footprint J64_N (Leaded Chip Carrier, 28-Leads, Body 11.5x11.5mm, Pitch 1.27mm, IPC Medium Density)
footprint J64_L (Leaded Chip Carrier, 28-Leads, Body 11.5x11.5mm, Pitch 1.27mm, IPC High Density)
footprint J64_M (Leaded Chip Carrier, 28-Leads, Body 11.5x11.5mm, Pitch 1.27mm, IPC Low Density)
3D model CY7C335-J64 (28-Pin Plastic Leaded Chip Carrier 1.27 mm Pitch)
pins: 1 CLK1 (in), 2 IN0/CLK2 (in), 3 IN1/CLK3 (in), 4 IN2 (in), 5 IN3 (in), 6 IN4 (in), 7 IN5 (in), 8 VSS (power), 9 IN6 (in), 10 IN7 (in), 11 IN8 (in), 12 IN9 (in), 13 IN10 (in), 14 ~{OE}/IN11 (in), 15 I/O11 (io), 16 I/O10 (io), 17 I/O9 (io), 18 I/O8 (io), 19 I/O7 (io), 20 I/O6 (io), 21 VSS (power), 22 VCC (power), 23 I/O5 (io), 24 I/O4 (io), 25 I/O3 (io), 26 I/O2 (io), 27 I/O1 (io), 28 I/O0 (io)

## CY7C335-50PC
designator U?
Universal Synchronous EPLD; Published: 11-Dec-2002; LatestRevisionDate: 04-Mar-2005; LatestRevisionNote: Stylized 3D Model Added.; DatasheetVersion: 26-Mar-1997; PackageVersion: Jul-2000; PackageReference: P21; Publisher: Altium Limited; PackageDescription: DIP, Molded; 28 Leads; Row Spacing 7.62 mm; Pitch 2.54 mm; ComponentLink1Description: Manufacturer Link; ComponentLink1URL: http://www.cypress.com/
footprint P21 (DIP, Molded; 28 Leads; Row Spacing 7.62 mm; Pitch 2.54 mm)
3D model P21 (DIP, Molded; 28 Leads; Row Spacing 7.62 mm; Pitch 2.54 mm)
pins: 1 CLK1 (in), 2 IN0/CLK2 (in), 3 IN1/CLK3 (in), 4 IN2 (in), 5 IN3 (in), 6 IN4 (in), 7 IN5 (in), 8 VSS (power), 9 IN6 (in), 10 IN7 (in), 11 IN8 (in), 12 IN9 (in), 13 IN10 (in), 14 ~{OE}/IN11 (in), 15 I/O11 (io), 16 I/O10 (io), 17 I/O9 (io), 18 I/O8 (io), 19 I/O7 (io), 20 I/O6 (io), 21 VSS (power), 22 VCC (power), 23 I/O5 (io), 24 I/O4 (io), 25 I/O3 (io), 26 I/O2 (io), 27 I/O1 (io), 28 I/O0 (io)

## CY7C335-66HC
designator U?
Universal Synchronous EPLD; Published: 11-Dec-2002; LatestRevisionDate: 13-Apr-2006; LatestRevisionNote: IPC-7351 Footprint Added.; DatasheetVersion: 26-Mar-1997; PackageVersion: Jul-2000; PackageReference: H64; Publisher: Altium Limited; PackageDescription: 28-Pin Window Leaded Chip Carrier 1.27 mm Pitch; ComponentLink1Description: Manufacturer Link; ComponentLink1URL: http://www.cypress.com/
footprint H64_N (Leaded Chip Carrier, 28-Leads, Body 11.4x11.4mm, Pitch 1.27mm, IPC Medium Density)
footprint H64_L (Leaded Chip Carrier, 28-Leads, Body 11.4x11.4mm, Pitch 1.27mm, IPC High Density)
footprint H64_M (Leaded Chip Carrier, 28-Leads, Body 11.4x11.4mm, Pitch 1.27mm, IPC Low Density)
3D model CY7C335-H64 (28-Pin Window Leaded Chip Carrier 1.27 mm Pitch)
pins: 1 CLK1 (in), 2 IN0/CLK2 (in), 3 IN1/CLK3 (in), 4 IN2 (in), 5 IN3 (in), 6 IN4 (in), 7 IN5 (in), 8 VSS (power), 9 IN6 (in), 10 IN7 (in), 11 IN8 (in), 12 IN9 (in), 13 IN10 (in), 14 ~{OE}/IN11 (in), 15 I/O11 (io), 16 I/O10 (io), 17 I/O9 (io), 18 I/O8 (io), 19 I/O7 (io), 20 I/O6 (io), 21 VSS (power), 22 VCC (power), 23 I/O5 (io), 24 I/O4 (io), 25 I/O3 (io), 26 I/O2 (io), 27 I/O1 (io), 28 I/O0 (io)

## CY7C335-66JC
designator U?
Universal Synchronous EPLD; Published: 11-Dec-2002; LatestRevisionDate: 13-Apr-2006; LatestRevisionNote: IPC-7351 Footprint Added.; DatasheetVersion: 26-Mar-1997; PackageVersion: Jul-2000; PackageReference: J64; Publisher: Altium Limited; PackageDescription: 28-Pin Plastic Leaded Chip Carrier 1.27 mm Pitch; Code_IPC: PLCC-28; ComponentLink1Description: Manufacturer Link; ComponentLink1URL: http://www.cypress.com/
footprint J64_N (Leaded Chip Carrier, 28-Leads, Body 11.5x11.5mm, Pitch 1.27mm, IPC Medium Density)
footprint J64_L (Leaded Chip Carrier, 28-Leads, Body 11.5x11.5mm, Pitch 1.27mm, IPC High Density)
footprint J64_M (Leaded Chip Carrier, 28-Leads, Body 11.5x11.5mm, Pitch 1.27mm, IPC Low Density)
3D model CY7C335-J64 (28-Pin Plastic Leaded Chip Carrier 1.27 mm Pitch)
pins: 1 CLK1 (in), 2 IN0/CLK2 (in), 3 IN1/CLK3 (in), 4 IN2 (in), 5 IN3 (in), 6 IN4 (in), 7 IN5 (in), 8 VSS (power), 9 IN6 (in), 10 IN7 (in), 11 IN8 (in), 12 IN9 (in), 13 IN10 (in), 14 ~{OE}/IN11 (in), 15 I/O11 (io), 16 I/O10 (io), 17 I/O9 (io), 18 I/O8 (io), 19 I/O7 (io), 20 I/O6 (io), 21 VSS (power), 22 VCC (power), 23 I/O5 (io), 24 I/O4 (io), 25 I/O3 (io), 26 I/O2 (io), 27 I/O1 (io), 28 I/O0 (io)

## CY7C335-66PC
designator U?
Universal Synchronous EPLD; Published: 11-Dec-2002; LatestRevisionDate: 04-Mar-2005; LatestRevisionNote: Stylized 3D Model Added.; DatasheetVersion: 26-Mar-1997; PackageVersion: Jul-2000; PackageReference: P21; Publisher: Altium Limited; PackageDescription: DIP, Molded; 28 Leads; Row Spacing 7.62 mm; Pitch 2.54 mm; ComponentLink1Description: Manufacturer Link; ComponentLink1URL: http://www.cypress.com/
footprint P21 (DIP, Molded; 28 Leads; Row Spacing 7.62 mm; Pitch 2.54 mm)
3D model P21 (DIP, Molded; 28 Leads; Row Spacing 7.62 mm; Pitch 2.54 mm)
pins: 1 CLK1 (in), 2 IN0/CLK2 (in), 3 IN1/CLK3 (in), 4 IN2 (in), 5 IN3 (in), 6 IN4 (in), 7 IN5 (in), 8 VSS (power), 9 IN6 (in), 10 IN7 (in), 11 IN8 (in), 12 IN9 (in), 13 IN10 (in), 14 ~{OE}/IN11 (in), 15 I/O11 (io), 16 I/O10 (io), 17 I/O9 (io), 18 I/O8 (io), 19 I/O7 (io), 20 I/O6 (io), 21 VSS (power), 22 VCC (power), 23 I/O5 (io), 24 I/O4 (io), 25 I/O3 (io), 26 I/O2 (io), 27 I/O1 (io), 28 I/O0 (io)

## CY7C335-66QMB
designator U?
Universal Synchronous EPLD; Published: 11-Dec-2002; DatasheetVersion: 26-Mar-1997; PackageVersion: Apr-2001; PackageReference: Q64; Publisher: Altium Limited; PackageDescription: Leadless Chip Carrier, Window; 28 Terminals; Body 11.4 x 11.4 mm; ComponentLink1Description: Manufacturer Link; ComponentLink1URL: http://www.cypress.com/
footprint Q64 (Leadless Chip Carrier, Window; 28 Terminals; Body 11.4 x 11.4 mm)
pins: 1 CLK1 (in), 2 IN0/CLK2 (in), 3 IN1/CLK3 (in), 4 IN2 (in), 5 IN3 (in), 6 IN4 (in), 7 IN5 (in), 8 VSS (power), 9 IN6 (in), 10 IN7 (in), 11 IN8 (in), 12 IN9 (in), 13 IN10 (in), 14 ~{OE}/IN11 (in), 15 I/O11 (io), 16 I/O10 (io), 17 I/O9 (io), 18 I/O8 (io), 19 I/O7 (io), 20 I/O6 (io), 21 VSS (power), 22 VCC (power), 23 I/O5 (io), 24 I/O4 (io), 25 I/O3 (io), 26 I/O2 (io), 27 I/O1 (io), 28 I/O0 (io)

## CY7C335-66WC
designator U?
Universal Synchronous EPLD; Published: 11-Dec-2002; LatestRevisionDate: 04-Mar-2005; LatestRevisionNote: Stylized 3D Model Added.; DatasheetVersion: 26-Mar-1997; PackageVersion: Jul-2000; PackageReference: W22; Publisher: Altium Limited; PackageDescription: CerDIP, Window; 28 Leads; Row Spacing 7.62 mm; Pitch 2.54 mm; ComponentLink1Description: Manufacturer Link; ComponentLink1URL: http://www.cypress.com/
footprint W22 (CerDIP, Window; 28 Leads; Row Spacing 7.62 mm; Pitch 2.54 mm)
3D model W22 (CerDIP, Window; 28 Leads; Row Spacing 7.62 mm; Pitch 2.54 mm)
pins: 1 CLK1 (in), 2 IN0/CLK2 (in), 3 IN1/CLK3 (in), 4 IN2 (in), 5 IN3 (in), 6 IN4 (in), 7 IN5 (in), 8 VSS (power), 9 IN6 (in), 10 IN7 (in), 11 IN8 (in), 12 IN9 (in), 13 IN10 (in), 14 ~{OE}/IN11 (in), 15 I/O11 (io), 16 I/O10 (io), 17 I/O9 (io), 18 I/O8 (io), 19 I/O7 (io), 20 I/O6 (io), 21 VSS (power), 22 VCC (power), 23 I/O5 (io), 24 I/O4 (io), 25 I/O3 (io), 26 I/O2 (io), 27 I/O1 (io), 28 I/O0 (io)

## CY7C335-83HC
designator U?
Universal Synchronous EPLD; Published: 11-Dec-2002; LatestRevisionDate: 13-Apr-2006; LatestRevisionNote: IPC-7351 Footprint Added.; DatasheetVersion: 26-Mar-1997; PackageVersion: Jul-2000; PackageReference: H64; Publisher: Altium Limited; PackageDescription: 28-Pin Window Leaded Chip Carrier 1.27 mm Pitch; ComponentLink1Description: Manufacturer Link; ComponentLink1URL: http://www.cypress.com/
footprint H64_N (Leaded Chip Carrier, 28-Leads, Body 11.4x11.4mm, Pitch 1.27mm, IPC Medium Density)
footprint H64_L (Leaded Chip Carrier, 28-Leads, Body 11.4x11.4mm, Pitch 1.27mm, IPC High Density)
footprint H64_M (Leaded Chip Carrier, 28-Leads, Body 11.4x11.4mm, Pitch 1.27mm, IPC Low Density)
3D model CY7C335-H64 (28-Pin Window Leaded Chip Carrier 1.27 mm Pitch)
pins: 1 CLK1 (in), 2 IN0/CLK2 (in), 3 IN1/CLK3 (in), 4 IN2 (in), 5 IN3 (in), 6 IN4 (in), 7 IN5 (in), 8 VSS (power), 9 IN6 (in), 10 IN7 (in), 11 IN8 (in), 12 IN9 (in), 13 IN10 (in), 14 ~{OE}/IN11 (in), 15 I/O11 (io), 16 I/O10 (io), 17 I/O9 (io), 18 I/O8 (io), 19 I/O7 (io), 20 I/O6 (io), 21 VSS (power), 22 VCC (power), 23 I/O5 (io), 24 I/O4 (io), 25 I/O3 (io), 26 I/O2 (io), 27 I/O1 (io), 28 I/O0 (io)

## CY7C335-83JC
designator U?
Universal Synchronous EPLD; Published: 11-Dec-2002; LatestRevisionDate: 13-Apr-2006; LatestRevisionNote: IPC-7351 Footprint Added.; DatasheetVersion: 26-Mar-1997; PackageVersion: Jul-2000; PackageReference: J64; Publisher: Altium Limited; PackageDescription: 28-Pin Plastic Leaded Chip Carrier 1.27 mm Pitch; Code_IPC: PLCC-28; ComponentLink1Description: Manufacturer Link; ComponentLink1URL: http://www.cypress.com/
footprint J64_N (Leaded Chip Carrier, 28-Leads, Body 11.5x11.5mm, Pitch 1.27mm, IPC Medium Density)
footprint J64_L (Leaded Chip Carrier, 28-Leads, Body 11.5x11.5mm, Pitch 1.27mm, IPC High Density)
footprint J64_M (Leaded Chip Carrier, 28-Leads, Body 11.5x11.5mm, Pitch 1.27mm, IPC Low Density)
3D model CY7C335-J64 (28-Pin Plastic Leaded Chip Carrier 1.27 mm Pitch)
pins: 1 CLK1 (in), 2 IN0/CLK2 (in), 3 IN1/CLK3 (in), 4 IN2 (in), 5 IN3 (in), 6 IN4 (in), 7 IN5 (in), 8 VSS (power), 9 IN6 (in), 10 IN7 (in), 11 IN8 (in), 12 IN9 (in), 13 IN10 (in), 14 ~{OE}/IN11 (in), 15 I/O11 (io), 16 I/O10 (io), 17 I/O9 (io), 18 I/O8 (io), 19 I/O7 (io), 20 I/O6 (io), 21 VSS (power), 22 VCC (power), 23 I/O5 (io), 24 I/O4 (io), 25 I/O3 (io), 26 I/O2 (io), 27 I/O1 (io), 28 I/O0 (io)

## CY7C335-83LMB
designator U?
Universal Synchronous EPLD; Published: 11-Dec-2002; DatasheetVersion: 26-Mar-1997; PackageVersion: Apr-2001; PackageReference: L64; Publisher: Altium Limited; PackageDescription: Leadless Chip Carrier; 28 Terminals; Body 11.4 x 11.4 mm; ComponentLink1Description: Manufacturer Link; ComponentLink1URL: http://www.cypress.com/
footprint L64 (Leadless Chip Carrier; 28 Terminals; Body 11.4 x 11.4 mm)
pins: 1 CLK1 (in), 2 IN0/CLK2 (in), 3 IN1/CLK3 (in), 4 IN2 (in), 5 IN3 (in), 6 IN4 (in), 7 IN5 (in), 8 VSS (power), 9 IN6 (in), 10 IN7 (in), 11 IN8 (in), 12 IN9 (in), 13 IN10 (in), 14 ~{OE}/IN11 (in), 15 I/O11 (io), 16 I/O10 (io), 17 I/O9 (io), 18 I/O8 (io), 19 I/O7 (io), 20 I/O6 (io), 21 VSS (power), 22 VCC (power), 23 I/O5 (io), 24 I/O4 (io), 25 I/O3 (io), 26 I/O2 (io), 27 I/O1 (io), 28 I/O0 (io)

## CY7C335-83QMB
designator U?
Universal Synchronous EPLD; Published: 11-Dec-2002; DatasheetVersion: 26-Mar-1997; PackageVersion: Apr-2001; PackageReference: Q64; Publisher: Altium Limited; PackageDescription: Leadless Chip Carrier, Window; 28 Terminals; Body 11.4 x 11.4 mm; ComponentLink1Description: Manufacturer Link; ComponentLink1URL: http://www.cypress.com/
footprint Q64 (Leadless Chip Carrier, Window; 28 Terminals; Body 11.4 x 11.4 mm)
pins: 1 CLK1 (in), 2 IN0/CLK2 (in), 3 IN1/CLK3 (in), 4 IN2 (in), 5 IN3 (in), 6 IN4 (in), 7 IN5 (in), 8 VSS (power), 9 IN6 (in), 10 IN7 (in), 11 IN8 (in), 12 IN9 (in), 13 IN10 (in), 14 ~{OE}/IN11 (in), 15 I/O11 (io), 16 I/O10 (io), 17 I/O9 (io), 18 I/O8 (io), 19 I/O7 (io), 20 I/O6 (io), 21 VSS (power), 22 VCC (power), 23 I/O5 (io), 24 I/O4 (io), 25 I/O3 (io), 26 I/O2 (io), 27 I/O1 (io), 28 I/O0 (io)

## CY7C335-83WC
designator U?
Universal Synchronous EPLD; Published: 11-Dec-2002; LatestRevisionDate: 04-Mar-2005; LatestRevisionNote: Stylized 3D Model Added.; DatasheetVersion: 26-Mar-1997; PackageVersion: Jul-2000; PackageReference: W22; Publisher: Altium Limited; PackageDescription: CerDIP, Window; 28 Leads; Row Spacing 7.62 mm; Pitch 2.54 mm; ComponentLink1Description: Manufacturer Link; ComponentLink1URL: http://www.cypress.com/
footprint W22 (CerDIP, Window; 28 Leads; Row Spacing 7.62 mm; Pitch 2.54 mm)
3D model W22 (CerDIP, Window; 28 Leads; Row Spacing 7.62 mm; Pitch 2.54 mm)
pins: 1 CLK1 (in), 2 IN0/CLK2 (in), 3 IN1/CLK3 (in), 4 IN2 (in), 5 IN3 (in), 6 IN4 (in), 7 IN5 (in), 8 VSS (power), 9 IN6 (in), 10 IN7 (in), 11 IN8 (in), 12 IN9 (in), 13 IN10 (in), 14 ~{OE}/IN11 (in), 15 I/O11 (io), 16 I/O10 (io), 17 I/O9 (io), 18 I/O8 (io), 19 I/O7 (io), 20 I/O6 (io), 21 VSS (power), 22 VCC (power), 23 I/O5 (io), 24 I/O4 (io), 25 I/O3 (io), 26 I/O2 (io), 27 I/O1 (io), 28 I/O0 (io)

## CY7C335-83WMB
designator U?
Universal Synchronous EPLD; Published: 11-Dec-2002; LatestRevisionDate: 04-Mar-2005; LatestRevisionNote: Stylized 3D Model Added.; DatasheetVersion: 26-Mar-1997; PackageVersion: Jul-2000; PackageReference: W22; Publisher: Altium Limited; PackageDescription: CerDIP, Window; 28 Leads; Row Spacing 7.62 mm; Pitch 2.54 mm; ComponentLink1Description: Manufacturer Link; ComponentLink1URL: http://www.cypress.com/
footprint W22 (CerDIP, Window; 28 Leads; Row Spacing 7.62 mm; Pitch 2.54 mm)
3D model W22 (CerDIP, Window; 28 Leads; Row Spacing 7.62 mm; Pitch 2.54 mm)
pins: 1 CLK1 (in), 2 IN0/CLK2 (in), 3 IN1/CLK3 (in), 4 IN2 (in), 5 IN3 (in), 6 IN4 (in), 7 IN5 (in), 8 VSS (power), 9 IN6 (in), 10 IN7 (in), 11 IN8 (in), 12 IN9 (in), 13 IN10 (in), 14 ~{OE}/IN11 (in), 15 I/O11 (io), 16 I/O10 (io), 17 I/O9 (io), 18 I/O8 (io), 19 I/O7 (io), 20 I/O6 (io), 21 VSS (power), 22 VCC (power), 23 I/O5 (io), 24 I/O4 (io), 25 I/O3 (io), 26 I/O2 (io), 27 I/O1 (io), 28 I/O0 (io)

## CY7C335-100WC
designator U?
Universal Synchronous EPLD; Published: 11-Dec-2002; LatestRevisionDate: 04-Mar-2005; LatestRevisionNote: Stylized 3D Model Added.; DatasheetVersion: 26-Mar-1997; PackageVersion: Jul-2000; PackageReference: W22; Publisher: Altium Limited; PackageDescription: CerDIP, Window; 28 Leads; Row Spacing 7.62 mm; Pitch 2.54 mm; ComponentLink1Description: Manufacturer Link; ComponentLink1URL: http://www.cypress.com/
footprint W22 (CerDIP, Window; 28 Leads; Row Spacing 7.62 mm; Pitch 2.54 mm)
3D model W22 (CerDIP, Window; 28 Leads; Row Spacing 7.62 mm; Pitch 2.54 mm)
pins: 1 CLK1 (in), 2 IN0/CLK2 (in), 3 IN1/CLK3 (in), 4 IN2 (in), 5 IN3 (in), 6 IN4 (in), 7 IN5 (in), 8 VSS (power), 9 IN6 (in), 10 IN7 (in), 11 IN8 (in), 12 IN9 (in), 13 IN10 (in), 14 ~{OE}/IN11 (in), 15 I/O11 (io), 16 I/O10 (io), 17 I/O9 (io), 18 I/O8 (io), 19 I/O7 (io), 20 I/O6 (io), 21 VSS (power), 22 VCC (power), 23 I/O5 (io), 24 I/O4 (io), 25 I/O3 (io), 26 I/O2 (io), 27 I/O1 (io), 28 I/O0 (io)

## PALC22V10D-7JC
designator U?
Flash Erasable, Reprogrammable CMOS PAL Device; Published: 11-Dec-2002; LatestRevisionDate: 13-Apr-2006; LatestRevisionNote: IPC-7351 Footprint Added.; DatasheetVersion: Oct-1995; PackageVersion: Jul-2000; PackageReference: J64; Publisher: Altium Limited; PackageDescription: 28-Pin Plastic Leaded Chip Carrier 1.27 mm Pitch; Code_IPC: PLCC-28; ComponentLink1Description: Manufacturer Link; ComponentLink1URL: http://www.cypress.com/
footprint J64_N (Leaded Chip Carrier, 28-Leads, Body 11.5x11.5mm, Pitch 1.27mm, IPC Medium Density)
footprint J64_L (Leaded Chip Carrier, 28-Leads, Body 11.5x11.5mm, Pitch 1.27mm, IPC High Density)
footprint J64_M (Leaded Chip Carrier, 28-Leads, Body 11.5x11.5mm, Pitch 1.27mm, IPC Low Density)
3D model PALC22V10D-J64 (28-Pin Plastic Leaded Chip Carrier 1.27 mm Pitch)
pins: 1 NC, 2 CP/IN (in), 3 IN (in), 4 IN (in), 5 IN (in), 6 IN (in), 7 IN (in), 8 NC, 9 IN (in), 10 IN (in), 11 IN (in), 12 IN (in), 13 IN (in), 14 VSS (power), 15 NC, 16 IN (in), 17 I/O9 (io), 18 I/O8 (io), 19 I/O7 (io), 20 I/O6 (io), 21 I/O5 (io), 22 NC, 23 I/O4 (io), 24 I/O3 (io), 25 I/O2 (io), 26 I/O1 (io), 27 I/O0 (io), 28 VCC (power)

## PALC22V10D-7PC
designator U?
Flash Erasable, Reprogrammable CMOS PAL Device; Published: 11-Dec-2002; LatestRevisionDate: 06-Oct-2005; LatestRevisionNote: Increased PCB silkscreen length.; DatasheetVersion: Oct-1995; PackageVersion: Mar-2005; PackageReference: P13; Publisher: Altium Limited; PackageDescription: DIP, Molded; 24 Leads; Row Spacing 7.62 mm; Pitch 2.54 mm; ComponentLink1Description: Manufacturer Link; ComponentLink1URL: http://www.cypress.com/
footprint P13 (DIP, Molded; 24 Leads; Row Spacing 7.62 mm; Pitch 2.54 mm)
3D model P13 (DIP, Molded; 24 Leads; Row Spacing 7.62 mm; Pitch 2.54 mm)
pins: 1 CP/IN (in), 2 IN (in), 3 IN (in), 4 IN (in), 5 IN (in), 6 IN (in), 7 IN (in), 8 IN (in), 9 IN (in), 10 IN (in), 11 IN (in), 12 VSS (power), 13 IN (in), 14 I/O9 (io), 15 I/O8 (io), 16 I/O7 (io), 17 I/O6 (io), 18 I/O5 (io), 19 I/O4 (io), 20 I/O3 (io), 21 I/O2 (io), 22 I/O1 (io), 23 I/O0 (io), 24 VCC (power)

## PALC22V10D-10DMB
designator U?
Flash Erasable, Reprogrammable CMOS PAL Device; Published: 11-Dec-2002; LatestRevisionDate: 04-Mar-2005; LatestRevisionNote: Stylized 3D Model Added.; DatasheetVersion: Oct-1995; PackageVersion: Jul-2001; PackageReference: D14; Publisher: Altium Limited; PackageDescription: CerDIP; 24 Leads; Row Spacing 7.62 mm; Pitch 2.54 mm; Code_JEDEC: MS-001-AF; ComponentLink1Description: Manufacturer Link; ComponentLink1URL: http://www.cypress.com/
footprint D14 (CerDIP; 24 Leads; Row Spacing 7.62 mm; Pitch 2.54 mm)
3D model D14 (CerDIP; 24 Leads; Row Spacing 7.62 mm; Pitch 2.54 mm)
pins: 1 CP/IN (in), 2 IN (in), 3 IN (in), 4 IN (in), 5 IN (in), 6 IN (in), 7 IN (in), 8 IN (in), 9 IN (in), 10 IN (in), 11 IN (in), 12 VSS (power), 13 IN (in), 14 I/O9 (io), 15 I/O8 (io), 16 I/O7 (io), 17 I/O6 (io), 18 I/O5 (io), 19 I/O4 (io), 20 I/O3 (io), 21 I/O2 (io), 22 I/O1 (io), 23 I/O0 (io), 24 VCC (power)

## PALC22V10D-10JC
designator U?
Flash Erasable, Reprogrammable CMOS PAL Device; Published: 11-Dec-2002; LatestRevisionDate: 13-Apr-2006; LatestRevisionNote: IPC-7351 Footprint Added.; DatasheetVersion: Oct-1995; PackageVersion: Jul-2000; PackageReference: J64; Publisher: Altium Limited; PackageDescription: 28-Pin Plastic Leaded Chip Carrier 1.27 mm Pitch; Code_IPC: PLCC-28; ComponentLink1Description: Manufacturer Link; ComponentLink1URL: http://www.cypress.com/
footprint J64_N (Leaded Chip Carrier, 28-Leads, Body 11.5x11.5mm, Pitch 1.27mm, IPC Medium Density)
footprint J64_L (Leaded Chip Carrier, 28-Leads, Body 11.5x11.5mm, Pitch 1.27mm, IPC High Density)
footprint J64_M (Leaded Chip Carrier, 28-Leads, Body 11.5x11.5mm, Pitch 1.27mm, IPC Low Density)
3D model PALC22V10D-J64 (28-Pin Plastic Leaded Chip Carrier 1.27 mm Pitch)
pins: 1 NC, 2 CP/IN (in), 3 IN (in), 4 IN (in), 5 IN (in), 6 IN (in), 7 IN (in), 8 NC, 9 IN (in), 10 IN (in), 11 IN (in), 12 IN (in), 13 IN (in), 14 VSS (power), 15 NC, 16 IN (in), 17 I/O9 (io), 18 I/O8 (io), 19 I/O7 (io), 20 I/O6 (io), 21 I/O5 (io), 22 NC, 23 I/O4 (io), 24 I/O3 (io), 25 I/O2 (io), 26 I/O1 (io), 27 I/O0 (io), 28 VCC (power)

## PALC22V10D-10JI
designator U?
Flash Erasable, Reprogrammable CMOS PAL Device; Published: 11-Dec-2002; LatestRevisionDate: 13-Apr-2006; LatestRevisionNote: IPC-7351 Footprint Added.; DatasheetVersion: Oct-1995; PackageVersion: Jul-2000; PackageReference: J64; Publisher: Altium Limited; PackageDescription: 28-Pin Plastic Leaded Chip Carrier 1.27 mm Pitch; Code_IPC: PLCC-28; ComponentLink1Description: Manufacturer Link; ComponentLink1URL: http://www.cypress.com/
footprint J64_N (Leaded Chip Carrier, 28-Leads, Body 11.5x11.5mm, Pitch 1.27mm, IPC Medium Density)
footprint J64_L (Leaded Chip Carrier, 28-Leads, Body 11.5x11.5mm, Pitch 1.27mm, IPC High Density)
footprint J64_M (Leaded Chip Carrier, 28-Leads, Body 11.5x11.5mm, Pitch 1.27mm, IPC Low Density)
3D model PALC22V10D-J64 (28-Pin Plastic Leaded Chip Carrier 1.27 mm Pitch)
pins: 1 NC, 2 CP/IN (in), 3 IN (in), 4 IN (in), 5 IN (in), 6 IN (in), 7 IN (in), 8 NC, 9 IN (in), 10 IN (in), 11 IN (in), 12 IN (in), 13 IN (in), 14 VSS (power), 15 NC, 16 IN (in), 17 I/O9 (io), 18 I/O8 (io), 19 I/O7 (io), 20 I/O6 (io), 21 I/O5 (io), 22 NC, 23 I/O4 (io), 24 I/O3 (io), 25 I/O2 (io), 26 I/O1 (io), 27 I/O0 (io), 28 VCC (power)

## PALC22V10D-10KMB
designator U?
Flash Erasable, Reprogrammable CMOS PAL Device; Published: 11-Dec-2002; LatestRevisionDate: 04-Mar-2005; LatestRevisionNote: Stylized 3D Model Added.; DatasheetVersion: Oct-1995; PackageVersion: Jul-2001; PackageReference: K73; Publisher: Altium Limited; PackageDescription: DFP; 24 Leads; Body 15.7 x 10.2 mm (LxW max); Pitch 1.27 mm; Code_IPC: MO-019(24); ComponentLink1Description: Manufacturer Link; ComponentLink1URL: http://www.cypress.com/
footprint K73 (DFP; 24 Leads; Body 15.7 x 10.2 mm (LxW max); Pitch 1.27 mm)
3D model K73 (DFP; 24 Leads; Body 15.7 x 10.2 mm (LxW max); Pitch 1.27 mm)
pins: 1 CP/IN (in), 2 IN (in), 3 IN (in), 4 IN (in), 5 IN (in), 6 IN (in), 7 IN (in), 8 IN (in), 9 IN (in), 10 IN (in), 11 IN (in), 12 VSS (power), 13 IN (in), 14 I/O9 (io), 15 I/O8 (io), 16 I/O7 (io), 17 I/O6 (io), 18 I/O5 (io), 19 I/O4 (io), 20 I/O3 (io), 21 I/O2 (io), 22 I/O1 (io), 23 I/O0 (io), 24 VCC (power)

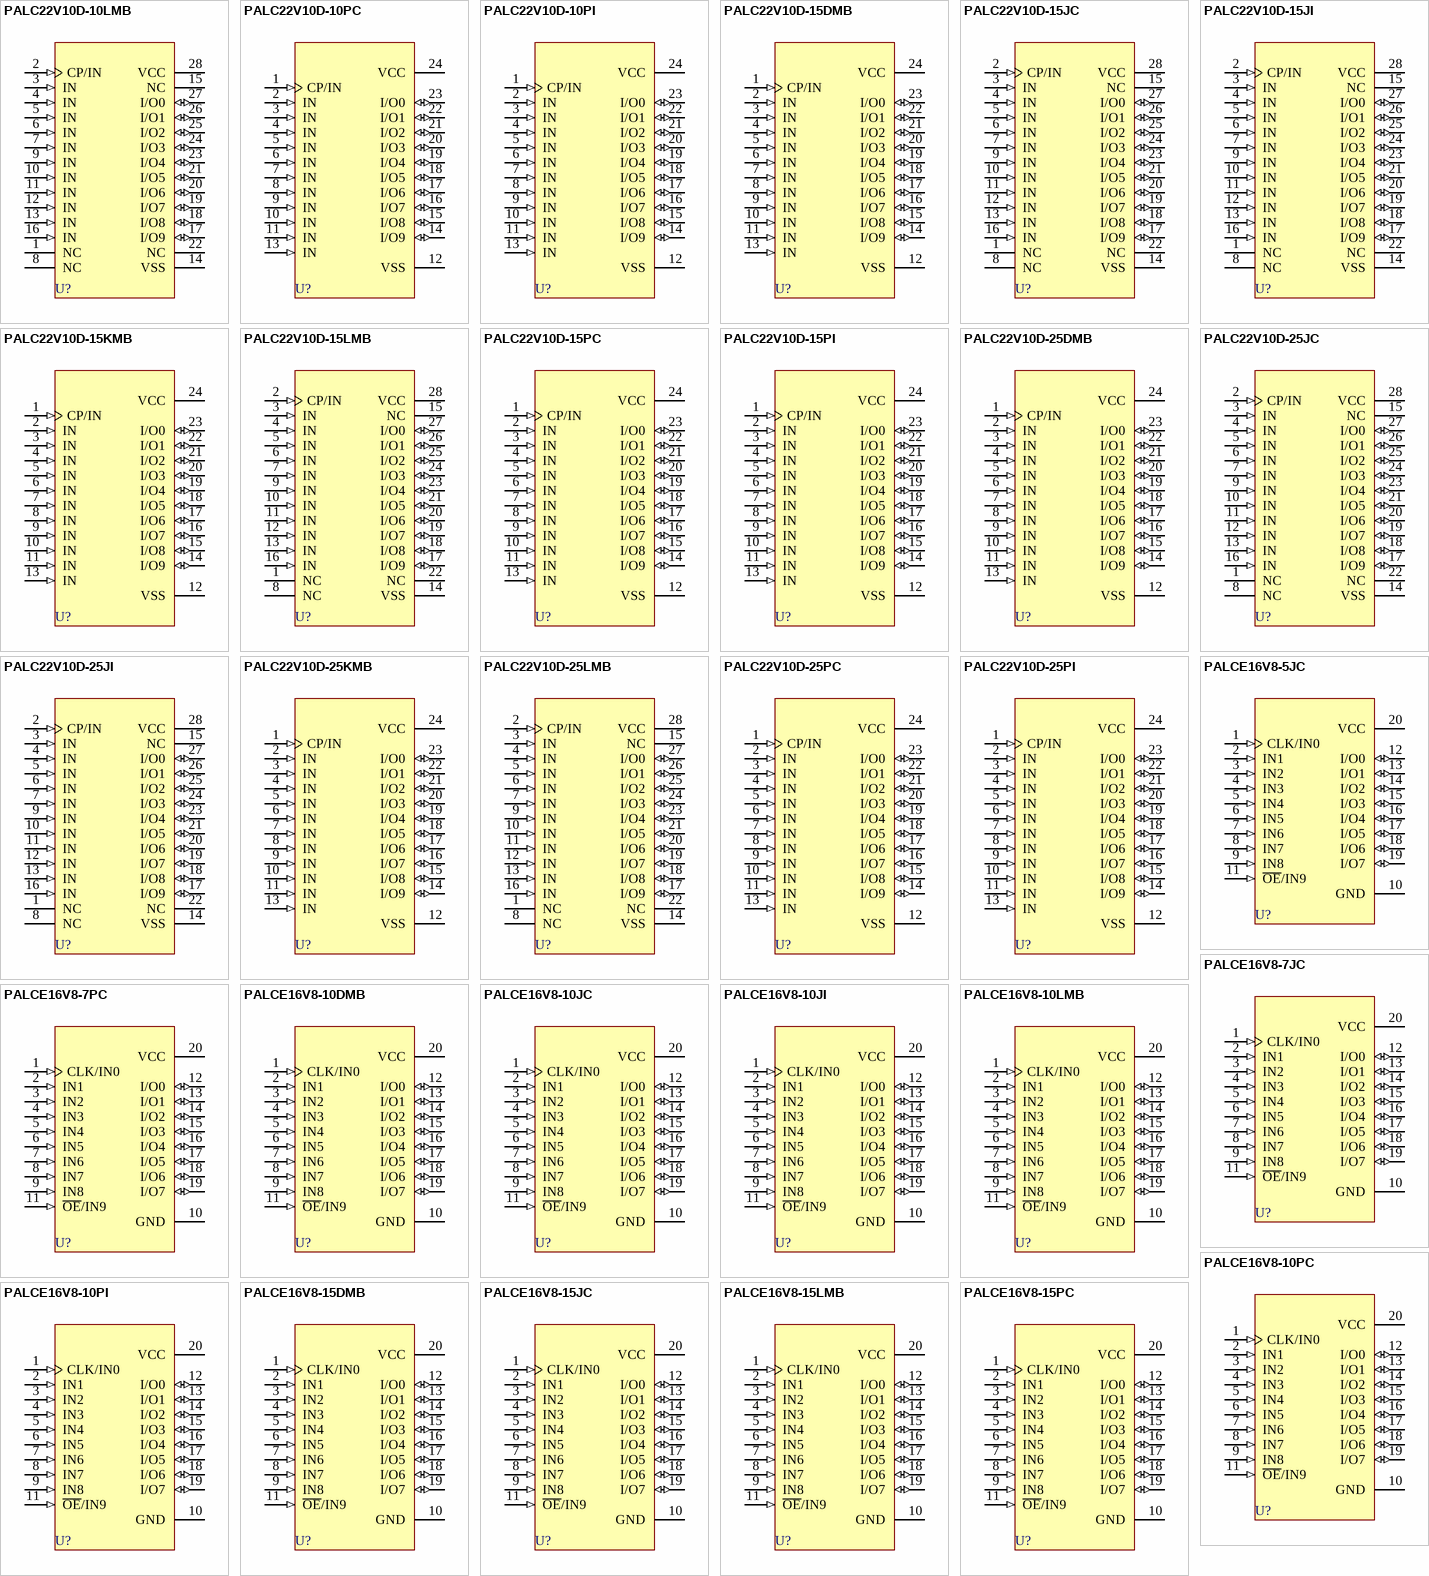
[diagram p2: symbols PALC22V10D-10LMB to PALCE16V8-15PC]